# Altium schematic symbol library CON_2X2.Schlib: 1 symbol
Pins are listed as number, name and electrical type; pins without a type are passive.

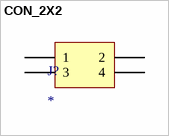
[diagram p0: symbol CON_2X2]

## CON_2X2
designator J?
pins: 1, 2, 3, 4